# Altium schematic symbol library CT-94.SchLib: 1 symbol
Pins are listed as number, name and electrical type; pins without a type are passive.

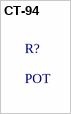
[diagram p0: symbol CT-94]

## CT-94
designator R?, comment POT
4 alternate drawings of the same symbol